# EAGLE library part LM311 (library BME_Components)
Quad Differential Comparator, 3.5 to 30 V, 0 to 70 degC, 8-Pin PDIP (P), Pb-Free (RoHS), Tube
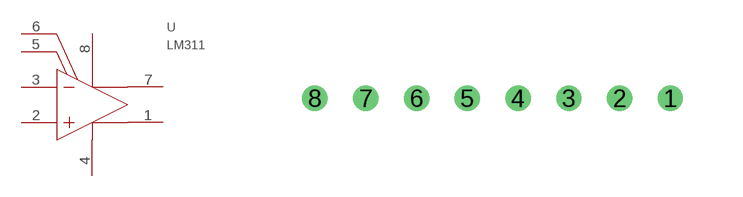
[diagram p26: symbol with the pads of LM311_PDIP-8; footprint LM311_PDIP-8]

Designator prefix U

## LM311LM311_LM311_PDIP-8 (CASE\PACKAGE: 0603; CASE_CODE_(IMPERIAL): 0603; CASE_CODE_(METRIC): 1608; COMPONENTLINK1DESCRIPTION: Manufacturer URL; COMPONENTLINK1URL: http://www.ti.com/; COMPONENTLINK2DESCRIPTION: Datasheet; COMPONENTLINK3DESCRIPTION: Package Specification; COMPONENTLINK3URL: http://www.ti.com/lit/ml/mpdi001b/mpdi001b.pdf; DATASHEETVERSION: SLCS007I, 06/2015; HEIGHT: 0.45 mm; LENGTH: 1.6 mm; MAX_OPERATING_TEMPERATURE: 155 degC; MIN_OPERATING_TEMPERATURE: -55 degC; MOUNT: Surface Mount; PACKAGEDESCRIPTION: 8-Pin Double In-line Package, Body 9.59 x 6.35 mm, Pitch 2.54 mm; PACKAGEREFERENCE: P0008A; PACKAGEVERSION: 4040082/E, 04/2010; PACKAGE_QUANTITY: 5000; PACKAGING: Tape and Reel; PINS: 2; POWER_RATING: 100 mW; RADIATION_HARDENING: No; REACH_SVHC: Unknown; RESISTANCE: 390 Ohm; ROHSCOMPLIANT: true; TOLERANCE: 1%; VOLTAGE_RATING: 75 V; WEIGHT: 7.1E-05 oz; WIDTH: 0.8 mm)  [LM311_PDIP-8]
1  EMIT_OUT  pas
2  IN+  in
3  IN-  in
4  VCC-  pwr
5  BALANCE  in
6  BAL/STRB  in
7  COL_OUT  pas
8  VCC+  pwr

## Footprint LM311_PDIP-8 (pad centres in mm)
drill 0.127 pad 0.254 round: 1 8.89,0; 2 7.62,0; 3 6.35,0; 4 5.08,0; 5 3.81,0; 6 2.54,0; 7 1.27,0; 8 0,0